# EAGLE library part OLOGO (library dec-con)
Experimental Logo for Boards.
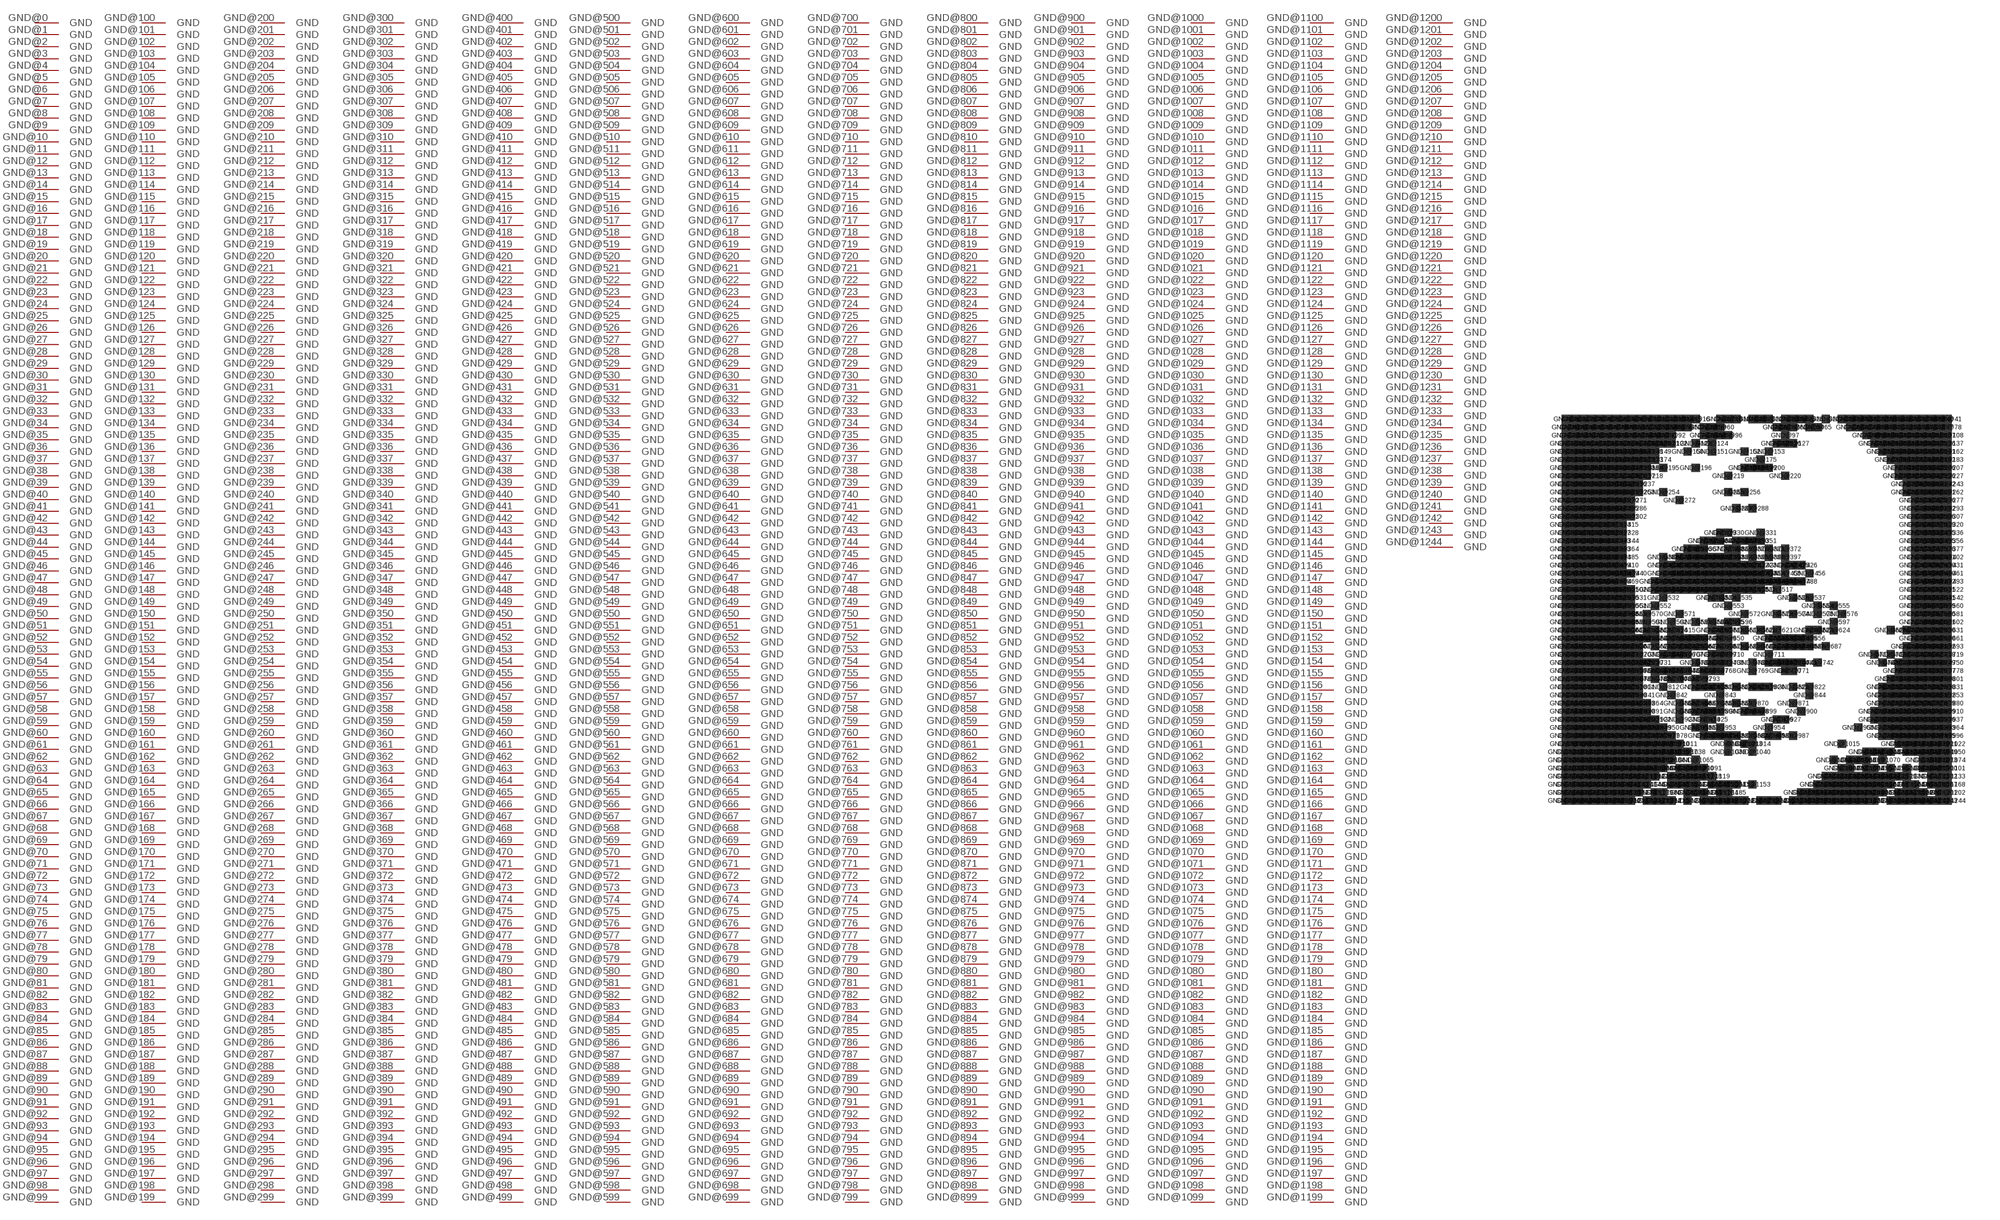
[diagram p36: symbol with the pads of OLOGO; footprint OLOGO]

Designator prefix -

## OLOGO  [OLOGO]
GND@0  GND  pwr
GND@1  GND  pwr
GND@2  GND  pwr
GND@3  GND  pwr
GND@4  GND  pwr
GND@5  GND  pwr
GND@6  GND  pwr
GND@7  GND  pwr
GND@8  GND  pwr
GND@9  GND  pwr
GND@10  GND  pwr
GND@11  GND  pwr
GND@12  GND  pwr
GND@13  GND  pwr
GND@14  GND  pwr
GND@15  GND  pwr
GND@16  GND  pwr
GND@17  GND  pwr
GND@18  GND  pwr
GND@19  GND  pwr
GND@20  GND  pwr
GND@21  GND  pwr
GND@22  GND  pwr
GND@23  GND  pwr
GND@24  GND  pwr
GND@25  GND  pwr
GND@26  GND  pwr
GND@27  GND  pwr
GND@28  GND  pwr
GND@29  GND  pwr
GND@30  GND  pwr
GND@31  GND  pwr
GND@32  GND  pwr
GND@33  GND  pwr
GND@34  GND  pwr
GND@35  GND  pwr
GND@36  GND  pwr
GND@37  GND  pwr
GND@38  GND  pwr
GND@39  GND  pwr
GND@40  GND  pwr
GND@41  GND  pwr
GND@42  GND  pwr
GND@43  GND  pwr
GND@44  GND  pwr
GND@45  GND  pwr
GND@46  GND  pwr
GND@47  GND  pwr
GND@48  GND  pwr
GND@49  GND  pwr
GND@50  GND  pwr
GND@51  GND  pwr
GND@52  GND  pwr
GND@53  GND  pwr
GND@54  GND  pwr
GND@55  GND  pwr
GND@56  GND  pwr
GND@57  GND  pwr
GND@58  GND  pwr
GND@59  GND  pwr
GND@60  GND  pwr
GND@61  GND  pwr
GND@62  GND  pwr
GND@63  GND  pwr
GND@64  GND  pwr
GND@65  GND  pwr
GND@66  GND  pwr
GND@67  GND  pwr
GND@68  GND  pwr
GND@69  GND  pwr
GND@70  GND  pwr
GND@71  GND  pwr
GND@72  GND  pwr
GND@73  GND  pwr
GND@74  GND  pwr
GND@75  GND  pwr
GND@76  GND  pwr
GND@77  GND  pwr
GND@78  GND  pwr
GND@79  GND  pwr
GND@80  GND  pwr
GND@81  GND  pwr
GND@82  GND  pwr
GND@83  GND  pwr
GND@84  GND  pwr
GND@85  GND  pwr
GND@86  GND  pwr
GND@87  GND  pwr
GND@88  GND  pwr
GND@89  GND  pwr
GND@90  GND  pwr
GND@91  GND  pwr
GND@92  GND  pwr
GND@93  GND  pwr
GND@94  GND  pwr
GND@95  GND  pwr
GND@96  GND  pwr
GND@97  GND  pwr
GND@98  GND  pwr
GND@99  GND  pwr
GND@100  GND  pwr
GND@101  GND  pwr
GND@102  GND  pwr
GND@103  GND  pwr
GND@104  GND  pwr
GND@105  GND  pwr
GND@106  GND  pwr
GND@107  GND  pwr
GND@108  GND  pwr
GND@109  GND  pwr
GND@110  GND  pwr
GND@111  GND  pwr
GND@112  GND  pwr
GND@113  GND  pwr
GND@114  GND  pwr
GND@115  GND  pwr
GND@116  GND  pwr
GND@117  GND  pwr
GND@118  GND  pwr
GND@119  GND  pwr
GND@120  GND  pwr
GND@121  GND  pwr
GND@122  GND  pwr
GND@123  GND  pwr
GND@124  GND  pwr
GND@125  GND  pwr
GND@126  GND  pwr
GND@127  GND  pwr
GND@128  GND  pwr
GND@129  GND  pwr
GND@130  GND  pwr
GND@131  GND  pwr
GND@132  GND  pwr
GND@133  GND  pwr
GND@134  GND  pwr
GND@135  GND  pwr
GND@136  GND  pwr
GND@137  GND  pwr
GND@138  GND  pwr
GND@139  GND  pwr
GND@140  GND  pwr
GND@141  GND  pwr
GND@142  GND  pwr
GND@143  GND  pwr
GND@144  GND  pwr
GND@145  GND  pwr
GND@146  GND  pwr
GND@147  GND  pwr
GND@148  GND  pwr
GND@149  GND  pwr
GND@150  GND  pwr
GND@151  GND  pwr
GND@152  GND  pwr
GND@153  GND  pwr
GND@154  GND  pwr
GND@155  GND  pwr
GND@156  GND  pwr
GND@157  GND  pwr
GND@158  GND  pwr
GND@159  GND  pwr
GND@160  GND  pwr
GND@161  GND  pwr
GND@162  GND  pwr
GND@163  GND  pwr
GND@164  GND  pwr
GND@165  GND  pwr
GND@166  GND  pwr
GND@167  GND  pwr
GND@168  GND  pwr
GND@169  GND  pwr
GND@170  GND  pwr
GND@171  GND  pwr
GND@172  GND  pwr
GND@173  GND  pwr
GND@174  GND  pwr
GND@175  GND  pwr
GND@176  GND  pwr
GND@177  GND  pwr
GND@178  GND  pwr
GND@179  GND  pwr
GND@180  GND  pwr
GND@181  GND  pwr
GND@182  GND  pwr
GND@183  GND  pwr
GND@184  GND  pwr
GND@185  GND  pwr
GND@186  GND  pwr
GND@187  GND  pwr
GND@188  GND  pwr
GND@189  GND  pwr
GND@190  GND  pwr
GND@191  GND  pwr
GND@192  GND  pwr
GND@193  GND  pwr
GND@194  GND  pwr
GND@195  GND  pwr
GND@196  GND  pwr
GND@197  GND  pwr
GND@198  GND  pwr
GND@199  GND  pwr
GND@200  GND  pwr
GND@201  GND  pwr
GND@202  GND  pwr
GND@203  GND  pwr
GND@204  GND  pwr
GND@205  GND  pwr
GND@206  GND  pwr
GND@207  GND  pwr
GND@208  GND  pwr
GND@209  GND  pwr
GND@210  GND  pwr
GND@211  GND  pwr
GND@212  GND  pwr
GND@213  GND  pwr
GND@214  GND  pwr
GND@215  GND  pwr
GND@216  GND  pwr
GND@217  GND  pwr
GND@218  GND  pwr
GND@219  GND  pwr
GND@220  GND  pwr
GND@221  GND  pwr
GND@222  GND  pwr
GND@223  GND  pwr
GND@224  GND  pwr
GND@225  GND  pwr
GND@226  GND  pwr
GND@227  GND  pwr
GND@228  GND  pwr
GND@229  GND  pwr
GND@230  GND  pwr
GND@231  GND  pwr
GND@232  GND  pwr
GND@233  GND  pwr
GND@234  GND  pwr
GND@235  GND  pwr
GND@236  GND  pwr
GND@237  GND  pwr
GND@238  GND  pwr
GND@239  GND  pwr
GND@240  GND  pwr
GND@241  GND  pwr
GND@242  GND  pwr
GND@243  GND  pwr
GND@244  GND  pwr
GND@245  GND  pwr
GND@246  GND  pwr
GND@247  GND  pwr
GND@248  GND  pwr
GND@249  GND  pwr
GND@250  GND  pwr
GND@251  GND  pwr
GND@252  GND  pwr
GND@253  GND  pwr
GND@254  GND  pwr
GND@255  GND  pwr
GND@256  GND  pwr
GND@257  GND  pwr
GND@258  GND  pwr
GND@259  GND  pwr
GND@260  GND  pwr
GND@261  GND  pwr
GND@262  GND  pwr
GND@263  GND  pwr
GND@264  GND  pwr
GND@265  GND  pwr
GND@266  GND  pwr
GND@267  GND  pwr
GND@268  GND  pwr
GND@269  GND  pwr
GND@270  GND  pwr
GND@271  GND  pwr
GND@272  GND  pwr
GND@273  GND  pwr
GND@274  GND  pwr
GND@275  GND  pwr
GND@276  GND  pwr
GND@277  GND  pwr
GND@278  GND  pwr
GND@279  GND  pwr
GND@280  GND  pwr
GND@281  GND  pwr
GND@282  GND  pwr
GND@283  GND  pwr
GND@284  GND  pwr
GND@285  GND  pwr
GND@286  GND  pwr
GND@287  GND  pwr
GND@288  GND  pwr
GND@289  GND  pwr
GND@290  GND  pwr
GND@291  GND  pwr
GND@292  GND  pwr
GND@293  GND  pwr
GND@294  GND  pwr
GND@295  GND  pwr
GND@296  GND  pwr
GND@297  GND  pwr
GND@298  GND  pwr
GND@299  GND  pwr
GND@300  GND  pwr
GND@301  GND  pwr
GND@302  GND  pwr
GND@303  GND  pwr
GND@304  GND  pwr
GND@305  GND  pwr
GND@306  GND  pwr
GND@307  GND  pwr
GND@308  GND  pwr
GND@309  GND  pwr
GND@310  GND  pwr
GND@311  GND  pwr
GND@312  GND  pwr
GND@313  GND  pwr
GND@314  GND  pwr
GND@315  GND  pwr
GND@316  GND  pwr
GND@317  GND  pwr
GND@318  GND  pwr
GND@319  GND  pwr
GND@320  GND  pwr
GND@321  GND  pwr
GND@322  GND  pwr
GND@323  GND  pwr
GND@324  GND  pwr
GND@325  GND  pwr
GND@326  GND  pwr
GND@327  GND  pwr
GND@328  GND  pwr
GND@329  GND  pwr
GND@330  GND  pwr
GND@331  GND  pwr
GND@332  GND  pwr
GND@333  GND  pwr
GND@334  GND  pwr
GND@335  GND  pwr
GND@336  GND  pwr
GND@337  GND  pwr
GND@338  GND  pwr
GND@339  GND  pwr
GND@340  GND  pwr
GND@341  GND  pwr
GND@342  GND  pwr
GND@343  GND  pwr
GND@344  GND  pwr
GND@345  GND  pwr
GND@346  GND  pwr
GND@347  GND  pwr
GND@348  GND  pwr
GND@349  GND  pwr
GND@350  GND  pwr
GND@351  GND  pwr
GND@352  GND  pwr
GND@353  GND  pwr
GND@354  GND  pwr
GND@355  GND  pwr
GND@356  GND  pwr
GND@357  GND  pwr
GND@358  GND  pwr
GND@359  GND  pwr
GND@360  GND  pwr
GND@361  GND  pwr
GND@362  GND  pwr
GND@363  GND  pwr
GND@364  GND  pwr
GND@365  GND  pwr
GND@366  GND  pwr
GND@367  GND  pwr
GND@368  GND  pwr
GND@369  GND  pwr
GND@370  GND  pwr
GND@371  GND  pwr
GND@372  GND  pwr
GND@373  GND  pwr
GND@374  GND  pwr
GND@375  GND  pwr
GND@376  GND  pwr
GND@377  GND  pwr
GND@378  GND  pwr
GND@379  GND  pwr
GND@380  GND  pwr
GND@381  GND  pwr
GND@382  GND  pwr
GND@383  GND  pwr
GND@384  GND  pwr
GND@385  GND  pwr
GND@386  GND  pwr
GND@387  GND  pwr
GND@388  GND  pwr
GND@389  GND  pwr
GND@390  GND  pwr
GND@391  GND  pwr
GND@392  GND  pwr
GND@393  GND  pwr
GND@394  GND  pwr
GND@395  GND  pwr
GND@396  GND  pwr
GND@397  GND  pwr
GND@398  GND  pwr
GND@399  GND  pwr
GND@400  GND  pwr
GND@401  GND  pwr
GND@402  GND  pwr
GND@403  GND  pwr
GND@404  GND  pwr
GND@405  GND  pwr
GND@406  GND  pwr
GND@407  GND  pwr
GND@408  GND  pwr
GND@409  GND  pwr
GND@410  GND  pwr
GND@411  GND  pwr
GND@412  GND  pwr
GND@413  GND  pwr
GND@414  GND  pwr
GND@415  GND  pwr
GND@416  GND  pwr
GND@417  GND  pwr
GND@418  GND  pwr
GND@419  GND  pwr
GND@420  GND  pwr
GND@421  GND  pwr
GND@422  GND  pwr
GND@423  GND  pwr
GND@424  GND  pwr
GND@425  GND  pwr
GND@426  GND  pwr
GND@427  GND  pwr
GND@428  GND  pwr
GND@429  GND  pwr
GND@430  GND  pwr
GND@431  GND  pwr
GND@432  GND  pwr
GND@433  GND  pwr
GND@434  GND  pwr
GND@435  GND  pwr
GND@436  GND  pwr
GND@437  GND  pwr
GND@438  GND  pwr
GND@439  GND  pwr
GND@440  GND  pwr
GND@441  GND  pwr
GND@442  GND  pwr
GND@443  GND  pwr
GND@444  GND  pwr
GND@445  GND  pwr
GND@446  GND  pwr
GND@447  GND  pwr
GND@448  GND  pwr
GND@449  GND  pwr
GND@450  GND  pwr
GND@451  GND  pwr
GND@452  GND  pwr
GND@453  GND  pwr
GND@454  GND  pwr
GND@455  GND  pwr
GND@456  GND  pwr
GND@457  GND  pwr
GND@458  GND  pwr
GND@459  GND  pwr
GND@460  GND  pwr
GND@461  GND  pwr
GND@462  GND  pwr
GND@463  GND  pwr
GND@464  GND  pwr
GND@465  GND  pwr
GND@466  GND  pwr
GND@467  GND  pwr
GND@468  GND  pwr
GND@469  GND  pwr
GND@470  GND  pwr
GND@471  GND  pwr
GND@472  GND  pwr
GND@473  GND  pwr
GND@474  GND  pwr
GND@475  GND  pwr
GND@476  GND  pwr
GND@477  GND  pwr
GND@478  GND  pwr
GND@479  GND  pwr
GND@480  GND  pwr
GND@481  GND  pwr
GND@482  GND  pwr
GND@483  GND  pwr
GND@484  GND  pwr
GND@485  GND  pwr
GND@486  GND  pwr
GND@487  GND  pwr
GND@488  GND  pwr
GND@489  GND  pwr
GND@490  GND  pwr
GND@491  GND  pwr
GND@492  GND  pwr
GND@493  GND  pwr
GND@494  GND  pwr
GND@495  GND  pwr
GND@496  GND  pwr
GND@497  GND  pwr
GND@498  GND  pwr
GND@499  GND  pwr
GND@500  GND  pwr
GND@501  GND  pwr
GND@502  GND  pwr
GND@503  GND  pwr
GND@504  GND  pwr
GND@505  GND  pwr
GND@506  GND  pwr
GND@507  GND  pwr
GND@508  GND  pwr
GND@509  GND  pwr
GND@510  GND  pwr
GND@511  GND  pwr
GND@512  GND  pwr
GND@513  GND  pwr
GND@514  GND  pwr
GND@515  GND  pwr
GND@516  GND  pwr
GND@517  GND  pwr
GND@518  GND  pwr
GND@519  GND  pwr
GND@520  GND  pwr
GND@521  GND  pwr
GND@522  GND  pwr
GND@523  GND  pwr
GND@524  GND  pwr
GND@525  GND  pwr
GND@526  GND  pwr
GND@527  GND  pwr
GND@528  GND  pwr
GND@529  GND  pwr
GND@530  GND  pwr
GND@531  GND  pwr
GND@532  GND  pwr
GND@533  GND  pwr
GND@534  GND  pwr
GND@535  GND  pwr
GND@536  GND  pwr
GND@537  GND  pwr
GND@538  GND  pwr
GND@539  GND  pwr
GND@540  GND  pwr
GND@541  GND  pwr
GND@542  GND  pwr
GND@543  GND  pwr
GND@544  GND  pwr
GND@545  GND  pwr
GND@546  GND  pwr
GND@547  GND  pwr
GND@548  GND  pwr
GND@549  GND  pwr
GND@550  GND  pwr
GND@551  GND  pwr
GND@552  GND  pwr
GND@553  GND  pwr
GND@554  GND  pwr
GND@555  GND  pwr
GND@556  GND  pwr
GND@557  GND  pwr
GND@558  GND  pwr
GND@559  GND  pwr
GND@560  GND  pwr
GND@561  GND  pwr
GND@562  GND  pwr
GND@563  GND  pwr
GND@564  GND  pwr
GND@565  GND  pwr
GND@566  GND  pwr
GND@567  GND  pwr
GND@568  GND  pwr
GND@569  GND  pwr
GND@570  GND  pwr
GND@571  GND  pwr
GND@572  GND  pwr
GND@573  GND  pwr
GND@574  GND  pwr
GND@575  GND  pwr
GND@576  GND  pwr
GND@577  GND  pwr
GND@578  GND  pwr
GND@579  GND  pwr
GND@580  GND  pwr
GND@581  GND  pwr
GND@582  GND  pwr
GND@583  GND  pwr
GND@584  GND  pwr
GND@585  GND  pwr
GND@586  GND  pwr
GND@587  GND  pwr
GND@588  GND  pwr
GND@589  GND  pwr
GND@590  GND  pwr
GND@591  GND  pwr
GND@592  GND  pwr
GND@593  GND  pwr
GND@594  GND  pwr
GND@595  GND  pwr
GND@596  GND  pwr
GND@597  GND  pwr
GND@598  GND  pwr
GND@599  GND  pwr
GND@600  GND  pwr
GND@601  GND  pwr
GND@602  GND  pwr
GND@603  GND  pwr
GND@604  GND  pwr
GND@605  GND  pwr
GND@606  GND  pwr
GND@607  GND  pwr
GND@608  GND  pwr
GND@609  GND  pwr
GND@610  GND  pwr
GND@611  GND  pwr
GND@612  GND  pwr
GND@613  GND  pwr
GND@614  GND  pwr
GND@615  GND  pwr
GND@616  GND  pwr
GND@617  GND  pwr
GND@618  GND  pwr
GND@619  GND  pwr
GND@620  GND  pwr
GND@621  GND  pwr
GND@622  GND  pwr
GND@623  GND  pwr
GND@624  GND  pwr
GND@625  GND  pwr
GND@626  GND  pwr
GND@627  GND  pwr
GND@628  GND  pwr
GND@629  GND  pwr
GND@630  GND  pwr
GND@631  GND  pwr
GND@632  GND  pwr
GND@633  GND  pwr
GND@634  GND  pwr
GND@635  GND  pwr
GND@636  GND  pwr
GND@637  GND  pwr
GND@638  GND  pwr
GND@639  GND  pwr
GND@640  GND  pwr
GND@641  GND  pwr
GND@642  GND  pwr
GND@643  GND  pwr
GND@644  GND  pwr
GND@645  GND  pwr
GND@646  GND  pwr
GND@647  GND  pwr
GND@648  GND  pwr
GND@649  GND  pwr
GND@650  GND  pwr
GND@651  GND  pwr
GND@652  GND  pwr
GND@653  GND  pwr
GND@654  GND  pwr
GND@655  GND  pwr
GND@656  GND  pwr
GND@657  GND  pwr
GND@658  GND  pwr
GND@659  GND  pwr
GND@660  GND  pwr
GND@661  GND  pwr
GND@662  GND  pwr
GND@663  GND  pwr
GND@664  GND  pwr
GND@665  GND  pwr
GND@666  GND  pwr
GND@667  GND  pwr
GND@668  GND  pwr
GND@669  GND  pwr
GND@670  GND  pwr
GND@671  GND  pwr
GND@672  GND  pwr
GND@673  GND  pwr
GND@674  GND  pwr
GND@675  GND  pwr
GND@676  GND  pwr
GND@677  GND  pwr
GND@678  GND  pwr
GND@679  GND  pwr
GND@680  GND  pwr
GND@681  GND  pwr
GND@682  GND  pwr
GND@683  GND  pwr
GND@684  GND  pwr
GND@685  GND  pwr
GND@686  GND  pwr
GND@687  GND  pwr
GND@688  GND  pwr
GND@689  GND  pwr
GND@690  GND  pwr
GND@691  GND  pwr
GND@692  GND  pwr
GND@693  GND  pwr
GND@694  GND  pwr
GND@695  GND  pwr
GND@696  GND  pwr
GND@697  GND  pwr
GND@698  GND  pwr
GND@699  GND  pwr
GND@700  GND  pwr
GND@701  GND  pwr
GND@702  GND  pwr
GND@703  GND  pwr
GND@704  GND  pwr
GND@705  GND  pwr
GND@706  GND  pwr
GND@707  GND  pwr
GND@708  GND  pwr
GND@709  GND  pwr
GND@710  GND  pwr
GND@711  GND  pwr
GND@712  GND  pwr
GND@713  GND  pwr
GND@714  GND  pwr
GND@715  GND  pwr
GND@716  GND  pwr
GND@717  GND  pwr
GND@718  GND  pwr
GND@719  GND  pwr
GND@720  GND  pwr
GND@721  GND  pwr
GND@722  GND  pwr
GND@723  GND  pwr
GND@724  GND  pwr
GND@725  GND  pwr
GND@726  GND  pwr
GND@727  GND  pwr
GND@728  GND  pwr
GND@729  GND  pwr
GND@730  GND  pwr
GND@731  GND  pwr
GND@732  GND  pwr
GND@733  GND  pwr
GND@734  GND  pwr
GND@735  GND  pwr
GND@736  GND  pwr
GND@737  GND  pwr
GND@738  GND  pwr
GND@739  GND  pwr
GND@740  GND  pwr
GND@741  GND  pwr
GND@742  GND  pwr
GND@743  GND  pwr
GND@744  GND  pwr
GND@745  GND  pwr
GND@746  GND  pwr
GND@747  GND  pwr
GND@748  GND  pwr
GND@749  GND  pwr
GND@750  GND  pwr
GND@751  GND  pwr
GND@752  GND  pwr
GND@753  GND  pwr
GND@754  GND  pwr
GND@755  GND  pwr
GND@756  GND  pwr
GND@757  GND  pwr
GND@758  GND  pwr
GND@759  GND  pwr
GND@760  GND  pwr
GND@761  GND  pwr
GND@762  GND  pwr
GND@763  GND  pwr
GND@764  GND  pwr
GND@765  GND  pwr
GND@766  GND  pwr
GND@767  GND  pwr
GND@768  GND  pwr
GND@769  GND  pwr
GND@770  GND  pwr
GND@771  GND  pwr
GND@772  GND  pwr
GND@773  GND  pwr
GND@774  GND  pwr
GND@775  GND  pwr
GND@776  GND  pwr
GND@777  GND  pwr
GND@778  GND  pwr
GND@779  GND  pwr
GND@780  GND  pwr
GND@781  GND  pwr
GND@782  GND  pwr
GND@783  GND  pwr
GND@784  GND  pwr
GND@785  GND  pwr
GND@786  GND  pwr
GND@787  GND  pwr
GND@788  GND  pwr
GND@789  GND  pwr
GND@790  GND  pwr
GND@791  GND  pwr
GND@792  GND  pwr
GND@793  GND  pwr
GND@794  GND  pwr
GND@795  GND  pwr
GND@796  GND  pwr
GND@797  GND  pwr
GND@798  GND  pwr
GND@799  GND  pwr
GND@800  GND  pwr
GND@801  GND  pwr
GND@802  GND  pwr
GND@803  GND  pwr
GND@804  GND  pwr
GND@805  GND  pwr
GND@806  GND  pwr
GND@807  GND  pwr
GND@808  GND  pwr
GND@809  GND  pwr
GND@810  GND  pwr
GND@811  GND  pwr
GND@812  GND  pwr
GND@813  GND  pwr
GND@814  GND  pwr
GND@815  GND  pwr
GND@816  GND  pwr
GND@817  GND  pwr
GND@818  GND  pwr
GND@819  GND  pwr
GND@820  GND  pwr
GND@821  GND  pwr
GND@822  GND  pwr
GND@823  GND  pwr
GND@824  GND  pwr
GND@825  GND  pwr
GND@826  GND  pwr
GND@827  GND  pwr
GND@828  GND  pwr
GND@829  GND  pwr
GND@830  GND  pwr
GND@831  GND  pwr
GND@832  GND  pwr
GND@833  GND  pwr
GND@834  GND  pwr
GND@835  GND  pwr
GND@836  GND  pwr
GND@837  GND  pwr
GND@838  GND  pwr
GND@839  GND  pwr
GND@840  GND  pwr
GND@841  GND  pwr
GND@842  GND  pwr
GND@843  GND  pwr
GND@844  GND  pwr
GND@845  GND  pwr
GND@846  GND  pwr
GND@847  GND  pwr
GND@848  GND  pwr
GND@849  GND  pwr
GND@850  GND  pwr
GND@851  GND  pwr
GND@852  GND  pwr
GND@853  GND  pwr
GND@854  GND  pwr
GND@855  GND  pwr
GND@856  GND  pwr
GND@857  GND  pwr
GND@858  GND  pwr
GND@859  GND  pwr
GND@860  GND  pwr
GND@861  GND  pwr
GND@862  GND  pwr
GND@863  GND  pwr
GND@864  GND  pwr
GND@865  GND  pwr
GND@866  GND  pwr
GND@867  GND  pwr
GND@868  GND  pwr
GND@869  GND  pwr
GND@870  GND  pwr
GND@871  GND  pwr
GND@872  GND  pwr
GND@873  GND  pwr
GND@874  GND  pwr
GND@875  GND  pwr
GND@876  GND  pwr
GND@877  GND  pwr
GND@878  GND  pwr
GND@879  GND  pwr
GND@880  GND  pwr
GND@881  GND  pwr
GND@882  GND  pwr
GND@883  GND  pwr
GND@884  GND  pwr
GND@885  GND  pwr
GND@886  GND  pwr
GND@887  GND  pwr
GND@888  GND  pwr
GND@889  GND  pwr
GND@890  GND  pwr
GND@891  GND  pwr
GND@892  GND  pwr
GND@893  GND  pwr
GND@894  GND  pwr
GND@895  GND  pwr
GND@896  GND  pwr
GND@897  GND  pwr
GND@898  GND  pwr
GND@899  GND  pwr
GND@900  GND  pwr
GND@901  GND  pwr
GND@902  GND  pwr
GND@903  GND  pwr
GND@904  GND  pwr
GND@905  GND  pwr
GND@906  GND  pwr
GND@907  GND  pwr
GND@908  GND  pwr
GND@909  GND  pwr
GND@910  GND  pwr
GND@911  GND  pwr
GND@912  GND  pwr
GND@913  GND  pwr
GND@914  GND  pwr
GND@915  GND  pwr
GND@916  GND  pwr
GND@917  GND  pwr
GND@918  GND  pwr
GND@919  GND  pwr
GND@920  GND  pwr
GND@921  GND  pwr
GND@922  GND  pwr
GND@923  GND  pwr
GND@924  GND  pwr
GND@925  GND  pwr
GND@926  GND  pwr
GND@927  GND  pwr
GND@928  GND  pwr
GND@929  GND  pwr
GND@930  GND  pwr
GND@931  GND  pwr
GND@932  GND  pwr
GND@933  GND  pwr
GND@934  GND  pwr
GND@935  GND  pwr
GND@936  GND  pwr
GND@937  GND  pwr
GND@938  GND  pwr
GND@939  GND  pwr
GND@940  GND  pwr
GND@941  GND  pwr
GND@942  GND  pwr
GND@943  GND  pwr
GND@944  GND  pwr
GND@945  GND  pwr
GND@946  GND  pwr
GND@947  GND  pwr
GND@948  GND  pwr
GND@949  GND  pwr
GND@950  GND  pwr
GND@951  GND  pwr
GND@952  GND  pwr
GND@953  GND  pwr
GND@954  GND  pwr
GND@955  GND  pwr
GND@956  GND  pwr
GND@957  GND  pwr
GND@958  GND  pwr
GND@959  GND  pwr
GND@960  GND  pwr
GND@961  GND  pwr
GND@962  GND  pwr
GND@963  GND  pwr
GND@964  GND  pwr
GND@965  GND  pwr
GND@966  GND  pwr
GND@967  GND  pwr
GND@968  GND  pwr
GND@969  GND  pwr
GND@970  GND  pwr
GND@971  GND  pwr
GND@972  GND  pwr
GND@973  GND  pwr
GND@974  GND  pwr
GND@975  GND  pwr
GND@976  GND  pwr
GND@977  GND  pwr
GND@978  GND  pwr
GND@979  GND  pwr
GND@980  GND  pwr
GND@981  GND  pwr
GND@982  GND  pwr
GND@983  GND  pwr
GND@984  GND  pwr
GND@985  GND  pwr
GND@986  GND  pwr
GND@987  GND  pwr
GND@988  GND  pwr
GND@989  GND  pwr
GND@990  GND  pwr
GND@991  GND  pwr
GND@992  GND  pwr
GND@993  GND  pwr
GND@994  GND  pwr
GND@995  GND  pwr
GND@996  GND  pwr
GND@997  GND  pwr
GND@998  GND  pwr
GND@999  GND  pwr
GND@1000  GND  pwr
GND@1001  GND  pwr
GND@1002  GND  pwr
GND@1003  GND  pwr
GND@1004  GND  pwr
GND@1005  GND  pwr
GND@1006  GND  pwr
GND@1007  GND  pwr
GND@1008  GND  pwr
GND@1009  GND  pwr
GND@1010  GND  pwr
GND@1011  GND  pwr
GND@1012  GND  pwr
GND@1013  GND  pwr
GND@1014  GND  pwr
GND@1015  GND  pwr
GND@1016  GND  pwr
GND@1017  GND  pwr
GND@1018  GND  pwr
GND@1019  GND  pwr
GND@1020  GND  pwr
GND@1021  GND  pwr
GND@1022  GND  pwr
GND@1023  GND  pwr
GND@1024  GND  pwr
GND@1025  GND  pwr
GND@1026  GND  pwr
GND@1027  GND  pwr
GND@1028  GND  pwr
GND@1029  GND  pwr
GND@1030  GND  pwr
GND@1031  GND  pwr
GND@1032  GND  pwr
GND@1033  GND  pwr
GND@1034  GND  pwr
GND@1035  GND  pwr
GND@1036  GND  pwr
GND@1037  GND  pwr
GND@1038  GND  pwr
GND@1039  GND  pwr
GND@1040  GND  pwr
GND@1041  GND  pwr
GND@1042  GND  pwr
GND@1043  GND  pwr
GND@1044  GND  pwr
GND@1045  GND  pwr
GND@1046  GND  pwr
GND@1047  GND  pwr
GND@1048  GND  pwr
GND@1049  GND  pwr
GND@1050  GND  pwr
GND@1051  GND  pwr
GND@1052  GND  pwr
GND@1053  GND  pwr
GND@1054  GND  pwr
GND@1055  GND  pwr
GND@1056  GND  pwr
GND@1057  GND  pwr
GND@1058  GND  pwr
GND@1059  GND  pwr
GND@1060  GND  pwr
GND@1061  GND  pwr
GND@1062  GND  pwr
GND@1063  GND  pwr
GND@1064  GND  pwr
GND@1065  GND  pwr
GND@1066  GND  pwr
GND@1067  GND  pwr
GND@1068  GND  pwr
GND@1069  GND  pwr
GND@1070  GND  pwr
GND@1071  GND  pwr
GND@1072  GND  pwr
GND@1073  GND  pwr
GND@1074  GND  pwr
GND@1075  GND  pwr
GND@1076  GND  pwr
GND@1077  GND  pwr
GND@1078  GND  pwr
GND@1079  GND  pwr
GND@1080  GND  pwr
GND@1081  GND  pwr
GND@1082  GND  pwr
GND@1083  GND  pwr
GND@1084  GND  pwr
GND@1085  GND  pwr
GND@1086  GND  pwr
GND@1087  GND  pwr
GND@1088  GND  pwr
GND@1089  GND  pwr
GND@1090  GND  pwr
GND@1091  GND  pwr
GND@1092  GND  pwr
GND@1093  GND  pwr
GND@1094  GND  pwr
GND@1095  GND  pwr
GND@1096  GND  pwr
GND@1097  GND  pwr
GND@1098  GND  pwr
GND@1099  GND  pwr
GND@1100  GND  pwr
GND@1101  GND  pwr
GND@1102  GND  pwr
GND@1103  GND  pwr
GND@1104  GND  pwr
GND@1105  GND  pwr
GND@1106  GND  pwr
GND@1107  GND  pwr
GND@1108  GND  pwr
GND@1109  GND  pwr
GND@1110  GND  pwr
GND@1111  GND  pwr
GND@1112  GND  pwr
GND@1113  GND  pwr
GND@1114  GND  pwr
GND@1115  GND  pwr
GND@1116  GND  pwr
GND@1117  GND  pwr
GND@1118  GND  pwr
GND@1119  GND  pwr
GND@1120  GND  pwr
GND@1121  GND  pwr
GND@1122  GND  pwr
GND@1123  GND  pwr
GND@1124  GND  pwr
GND@1125  GND  pwr
GND@1126  GND  pwr
GND@1127  GND  pwr
GND@1128  GND  pwr
GND@1129  GND  pwr
GND@1130  GND  pwr
GND@1131  GND  pwr
GND@1132  GND  pwr
GND@1133  GND  pwr
GND@1134  GND  pwr
GND@1135  GND  pwr
GND@1136  GND  pwr
GND@1137  GND  pwr
GND@1138  GND  pwr
GND@1139  GND  pwr
GND@1140  GND  pwr
GND@1141  GND  pwr
GND@1142  GND  pwr
GND@1143  GND  pwr
GND@1144  GND  pwr
GND@1145  GND  pwr
GND@1146  GND  pwr
GND@1147  GND  pwr
GND@1148  GND  pwr
GND@1149  GND  pwr
GND@1150  GND  pwr
GND@1151  GND  pwr
GND@1152  GND  pwr
GND@1153  GND  pwr
GND@1154  GND  pwr
GND@1155  GND  pwr
GND@1156  GND  pwr
GND@1157  GND  pwr
GND@1158  GND  pwr
GND@1159  GND  pwr
GND@1160  GND  pwr
GND@1161  GND  pwr
GND@1162  GND  pwr
GND@1163  GND  pwr
GND@1164  GND  pwr
GND@1165  GND  pwr
GND@1166  GND  pwr
GND@1167  GND  pwr
GND@1168  GND  pwr
GND@1169  GND  pwr
GND@1170  GND  pwr
GND@1171  GND  pwr
GND@1172  GND  pwr
GND@1173  GND  pwr
GND@1174  GND  pwr
GND@1175  GND  pwr
GND@1176  GND  pwr
GND@1177  GND  pwr
GND@1178  GND  pwr
GND@1179  GND  pwr
GND@1180  GND  pwr
GND@1181  GND  pwr
GND@1182  GND  pwr
GND@1183  GND  pwr
GND@1184  GND  pwr
GND@1185  GND  pwr
GND@1186  GND  pwr
GND@1187  GND  pwr
GND@1188  GND  pwr
GND@1189  GND  pwr
GND@1190  GND  pwr
GND@1191  GND  pwr
GND@1192  GND  pwr
GND@1193  GND  pwr
GND@1194  GND  pwr
GND@1195  GND  pwr
GND@1196  GND  pwr
GND@1197  GND  pwr
GND@1198  GND  pwr
GND@1199  GND  pwr
GND@1200  GND  pwr
GND@1201  GND  pwr
GND@1202  GND  pwr
GND@1203  GND  pwr
GND@1204  GND  pwr
GND@1205  GND  pwr
GND@1206  GND  pwr
GND@1207  GND  pwr
GND@1208  GND  pwr
GND@1209  GND  pwr
GND@1210  GND  pwr
GND@1211  GND  pwr
GND@1212  GND  pwr
GND@1213  GND  pwr
GND@1214  GND  pwr
GND@1215  GND  pwr
GND@1216  GND  pwr
GND@1217  GND  pwr
GND@1218  GND  pwr
GND@1219  GND  pwr
GND@1220  GND  pwr
GND@1221  GND  pwr
GND@1222  GND  pwr
GND@1223  GND  pwr
GND@1224  GND  pwr
GND@1225  GND  pwr
GND@1226  GND  pwr
GND@1227  GND  pwr
GND@1228  GND  pwr
GND@1229  GND  pwr
GND@1230  GND  pwr
GND@1231  GND  pwr
GND@1232  GND  pwr
GND@1233  GND  pwr
GND@1234  GND  pwr
GND@1235  GND  pwr
GND@1236  GND  pwr
GND@1237  GND  pwr
GND@1238  GND  pwr
GND@1239  GND  pwr
GND@1240  GND  pwr
GND@1241  GND  pwr
GND@1242  GND  pwr
GND@1243  GND  pwr
GND@1244  GND  pwr

## Footprint OLOGO (pad centres in mm)
Experimental Logo for boards.
smd 0.254 x 0.254 bottom: GND@0 0,11.938; GND@1 0.254,11.938; GND@2 0.508,11.938; GND@3 0.762,11.938; GND@4 1.016,11.938; GND@5 1.27,11.938; GND@6 1.524,11.938; GND@7 1.778,11.938; GND@8 2.032,11.938; GND@9 2.286,11.938; GND@10 2.54,11.938; GND@11 2.794,11.938; GND@12 3.048,11.938; GND@13 3.302,11.938; GND@14 3.556,11.938; GND@15 3.81,11.938; GND@16 4.064,11.938; GND@17 4.826,11.938; GND@18 5.08,11.938; GND@19 5.334,11.938; GND@20 5.842,11.938; GND@21 6.096,11.938; GND@22 6.35,11.938; GND@23 6.858,11.938; GND@24 7.112,11.938; GND@25 7.366,11.938; GND@26 7.62,11.938; GND@27 8.128,11.938; GND@28 8.636,11.938; GND@29 8.89,11.938; GND@30 9.144,11.938; GND@31 9.398,11.938; GND@32 9.652,11.938; GND@33 9.906,11.938; GND@34 10.16,11.938; GND@35 10.414,11.938; GND@36 10.668,11.938; GND@37 10.922,11.938; GND@38 11.176,11.938; GND@39 11.43,11.938; GND@40 11.684,11.938; GND@41 11.938,11.938; GND@42 0,11.684; GND@43 0.254,11.684; GND@44 0.508,11.684; GND@45 0.762,11.684; GND@46 1.016,11.684; GND@47 1.27,11.684; GND@48 1.524,11.684; GND@49 1.778,11.684; GND@50 2.032,11.684; GND@51 2.286,11.684; GND@52 2.54,11.684; GND@53 2.794,11.684; GND@54 3.048,11.684; GND@55 3.302,11.684; GND@56 3.556,11.684; GND@57 3.81,11.684; GND@58 4.318,11.684; GND@59 4.572,11.684; GND@60 4.826,11.684; GND@61 6.604,11.684; GND@62 6.858,11.684; GND@63 7.112,11.684; GND@64 7.62,11.684; GND@65 7.874,11.684; GND@66 8.89,11.684; GND@67 9.144,11.684; GND@68 9.398,11.684; GND@69 9.652,11.684; GND@70 9.906,11.684; GND@71 10.16,11.684; GND@72 10.414,11.684; GND@73 10.668,11.684; GND@74 10.922,11.684; GND@75 11.176,11.684; GND@76 11.43,11.684; GND@77 11.684,11.684; GND@78 11.938,11.684; GND@79 0,11.43; GND@80 0.254,11.43; GND@81 0.508,11.43; GND@82 0.762,11.43; GND@83 1.016,11.43; GND@84 1.27,11.43; GND@85 1.524,11.43; GND@86 1.778,11.43; GND@87 2.032,11.43; GND@88 2.286,11.43; GND@89 2.54,11.43; GND@90 2.794,11.43; GND@91 3.048,11.43; GND@92 3.302,11.43; GND@93 4.318,11.43; GND@94 4.572,11.43; GND@95 4.826,11.43; GND@96 5.08,11.43; GND@97 6.858,11.43; GND@98 9.398,11.43; GND@99 9.652,11.43; GND@100 9.906,11.43; GND@101 10.16,11.43; GND@102 10.414,11.43; GND@103 10.668,11.43; GND@104 10.922,11.43; GND@105 11.176,11.43; GND@106 11.43,11.43; GND@107 11.684,11.43; GND@108 11.938,11.43; GND@109 0,11.176; GND@110 0.254,11.176; GND@111 0.508,11.176; GND@112 0.762,11.176; GND@113 1.016,11.176; GND@114 1.27,11.176; GND@115 1.524,11.176; GND@116 1.778,11.176; GND@117 2.032,11.176; GND@118 2.286,11.176; GND@119 2.54,11.176; GND@120 2.794,11.176; GND@121 3.048,11.176; GND@122 3.302,11.176; GND@123 4.064,11.176; GND@124 4.572,11.176; GND@125 6.604,11.176; GND@126 6.858,11.176; GND@127 7.112,11.176; GND@128 9.652,11.176; GND@129 9.906,11.176; GND@130 10.16,11.176; GND@131 10.414,11.176; GND@132 10.668,11.176; GND@133 10.922,11.176; GND@134 11.176,11.176; GND@135 11.43,11.176; GND@136 11.684,11.176; GND@137 11.938,11.176; GND@138 0,10.922; GND@139 0.254,10.922; GND@140 0.508,10.922; GND@141 0.762,10.922; GND@142 1.016,10.922; GND@143 1.27,10.922; GND@144 1.524,10.922; GND@145 1.778,10.922; GND@146 2.032,10.922; GND@147 2.286,10.922; GND@148 2.54,10.922; GND@149 2.794,10.922; GND@150 3.81,10.922; GND@151 4.572,10.922; GND@152 5.588,10.922; GND@153 6.35,10.922; GND@154 9.906,10.922; GND@155 10.16,10.922; GND@156 10.414,10.922; GND@157 10.668,10.922; GND@158 10.922,10.922; GND@159 11.176,10.922; GND@160 11.43,10.922; GND@161 11.684,10.922; GND@162 11.938,10.922; GND@163 0,10.668; GND@164 0.254,10.668; GND@165 0.508,10.668; GND@166 0.762,10.668; GND@167 1.016,10.668; GND@168 1.27,10.668; GND@169 1.524,10.668; GND@170 1.778,10.668; GND@171 2.032,10.668; GND@172 2.286,10.668; GND@173 2.54,10.668; GND@174 2.794,10.668; GND@175 6.096,10.668; GND@176 10.16,10.668; GND@177 10.414,10.668; GND@178 10.668,10.668; GND@179 10.922,10.668; GND@180 11.176,10.668; GND@181 11.43,10.668; GND@182 11.684,10.668; GND@183 11.938,10.668; GND@184 0,10.414; GND@185 0.254,10.414; GND@186 0.508,10.414; GND@187 0.762,10.414; GND@188 1.016,10.414; GND@189 1.27,10.414; GND@190 1.524,10.414; GND@191 1.778,10.414; GND@192 2.032,10.414; GND@193 2.286,10.414; GND@194 2.54,10.414; GND@195 3.048,10.414; GND@196 4.064,10.414; GND@197 5.588,10.414; GND@198 5.842,10.414; GND@199 6.096,10.414; GND@200 6.35,10.414; GND@201 10.414,10.414; GND@202 10.668,10.414; GND@203 10.922,10.414; GND@204 11.176,10.414; GND@205 11.43,10.414; GND@206 11.684,10.414; GND@207 11.938,10.414; GND@208 0,10.16; GND@209 0.254,10.16; GND@210 0.508,10.16; GND@211 0.762,10.16; GND@212 1.016,10.16; GND@213 1.27,10.16; GND@214 1.524,10.16; GND@215 1.778,10.16; GND@216 2.032,10.16; GND@217 2.286,10.16; GND@218 2.54,10.16; GND@219 5.08,10.16; GND@220 6.858,10.16; GND@221 10.414,10.16; GND@222 10.668,10.16; GND@223 10.922,10.16; GND@224 11.176,10.16; GND@225 11.43,10.16; GND@226 11.684,10.16; GND@227 11.938,10.16; GND@228 0,9.906; GND@229 0.254,9.906; GND@230 0.508,9.906; GND@231 0.762,9.906; GND@232 1.016,9.906; GND@233 1.27,9.906; GND@234 1.524,9.906; GND@235 1.778,9.906; GND@236 2.032,9.906; GND@237 2.286,9.906; GND@238 10.668,9.906; GND@239 10.922,9.906; GND@240 11.176,9.906; GND@241 11.43,9.906; GND@242 11.684,9.906; GND@243 11.938,9.906; GND@244 0,9.652; GND@245 0.254,9.652; GND@246 0.508,9.652; GND@247 0.762,9.652; GND@248 1.016,9.652; GND@249 1.27,9.652; GND@250 1.524,9.652; GND@251 1.778,9.652; GND@252 2.032,9.652; GND@253 2.286,9.652; GND@254 3.048,9.652; GND@255 5.08,9.652; GND@256 5.588,9.652; GND@257 10.668,9.652; GND@258 10.922,9.652; GND@259 11.176,9.652; GND@260 11.43,9.652; GND@261 11.684,9.652; GND@262 11.938,9.652; GND@263 0,9.398; GND@264 0.254,9.398; GND@265 0.508,9.398; GND@266 0.762,9.398; GND@267 1.016,9.398; GND@268 1.27,9.398; GND@269 1.524,9.398; GND@270 1.778,9.398; GND@271 2.032,9.398; GND@272 3.556,9.398; GND@273 10.922,9.398; GND@274 11.176,9.398; GND@275 11.43,9.398; GND@276 11.684,9.398; GND@277 11.938,9.398; GND@278 0,9.144; GND@279 0.254,9.144; GND@280 0.508,9.144; GND@281 0.762,9.144; GND@282 1.016,9.144; GND@283 1.27,9.144; GND@284 1.524,9.144; GND@285 1.778,9.144; GND@286 2.032,9.144; GND@287 5.334,9.144; GND@288 5.842,9.144; GND@289 10.922,9.144; GND@290 11.176,9.144; GND@291 11.43,9.144; GND@292 11.684,9.144; GND@293 11.938,9.144; GND@294 0,8.89; GND@295 0.254,8.89; GND@296 0.508,8.89; GND@297 0.762,8.89; GND@298 1.016,8.89; GND@299 1.27,8.89; GND@300 1.524,8.89; GND@301 1.778,8.89; GND@302 2.032,8.89; GND@303 10.922,8.89; GND@304 11.176,8.89; GND@305 11.43,8.89; GND@306 11.684,8.89; GND@307 11.938,8.89; GND@308 0,8.636; GND@309 0.254,8.636; GND@310 0.508,8.636; GND@311 0.762,8.636; GND@312 1.016,8.636; GND@313 1.27,8.636; GND@314 1.524,8.636; GND@315 1.778,8.636; GND@316 10.922,8.636; GND@317 11.176,8.636; GND@318 11.43,8.636; GND@319 11.684,8.636; GND@320 11.938,8.636; GND@321 0,8.382; GND@322 0.254,8.382; GND@323 0.508,8.382; GND@324 0.762,8.382; GND@325 1.016,8.382; GND@326 1.27,8.382; GND@327 1.524,8.382; GND@328 1.778,8.382; GND@329 4.826,8.382; GND@330 5.08,8.382; GND@331 6.096,8.382; GND@332 10.922,8.382; GND@333 11.176,8.382; GND@334 11.43,8.382; GND@335 11.684,8.382; GND@336 11.938,8.382; GND@337 0,8.128; GND@338 0.254,8.128; GND@339 0.508,8.128; GND@340 0.762,8.128; GND@341 1.016,8.128; GND@342 1.27,8.128; GND@343 1.524,8.128; GND@344 1.778,8.128; GND@345 4.318,8.128; GND@346 4.572,8.128; GND@347 4.826,8.128; GND@348 5.334,8.128; GND@349 5.588,8.128; GND@350 5.842,8.128; GND@351 6.096,8.128; GND@352 10.922,8.128; GND@353 11.176,8.128; GND@354 11.43,8.128; GND@355 11.684,8.128; GND@356 11.938,8.128; GND@357 0,7.874; GND@358 0.254,7.874; GND@359 0.508,7.874; GND@360 0.762,7.874; GND@361 1.016,7.874; GND@362 1.27,7.874; GND@363 1.524,7.874; GND@364 1.778,7.874; GND@365 3.81,7.874; GND@366 4.064,7.874; GND@367 4.318,7.874; GND@368 5.08,7.874; GND@369 5.334,7.874; GND@370 5.842,7.874; GND@371 6.35,7.874; GND@372 6.858,7.874; GND@373 10.922,7.874; GND@374 11.176,7.874; GND@375 11.43,7.874; GND@376 11.684,7.874; GND@377 11.938,7.874; GND@378 0,7.62; GND@379 0.254,7.62; GND@380 0.508,7.62; GND@381 0.762,7.62; GND@382 1.016,7.62; GND@383 1.27,7.62; GND@384 1.524,7.62; GND@385 1.778,7.62; GND@386 3.048,7.62; GND@387 3.556,7.62; GND@388 3.81,7.62; GND@389 4.064,7.62; GND@390 4.318,7.62; GND@391 4.572,7.62; GND@392 4.826,7.62; GND@393 5.08,7.62; GND@394 5.334,7.62; GND@395 5.842,7.62; GND@396 6.35,7.62; GND@397 6.858,7.62; GND@398 10.922,7.62; GND@399 11.176,7.62; GND@400 11.43,7.62; GND@401 11.684,7.62; GND@402 11.938,7.62; GND@403 0,7.366; GND@404 0.254,7.366; GND@405 0.508,7.366; GND@406 0.762,7.366; GND@407 1.016,7.366; GND@408 1.27,7.366; GND@409 1.524,7.366; GND@410 1.778,7.366; GND@411 3.048,7.366; GND@412 3.302,7.366; GND@413 3.556,7.366; GND@414 3.81,7.366; GND@415 4.064,7.366; GND@416 4.318,7.366; GND@417 4.572,7.366; GND@418 4.826,7.366; GND@419 5.08,7.366; GND@420 5.334,7.366; GND@421 5.588,7.366; GND@422 5.842,7.366; GND@423 6.096,7.366; GND@424 6.858,7.366; GND@425 7.112,7.366; GND@426 7.366,7.366; GND@427 10.922,7.366; GND@428 11.176,7.366; GND@429 11.43,7.366; GND@430 11.684,7.366; GND@431 11.938,7.366; GND@432 0,7.112; GND@433 0.254,7.112; GND@434 0.508,7.112; GND@435 0.762,7.112; GND@436 1.016,7.112; GND@437 1.27,7.112; GND@438 1.524,7.112; GND@439 1.778,7.112; GND@440 2.032,7.112; GND@441 3.048,7.112; GND@442 3.302,7.112; GND@443 3.556,7.112; GND@444 3.81,7.112; GND@445 4.064,7.112; GND@446 4.318,7.112; GND@447 4.572,7.112; GND@448 4.826,7.112; GND@449 5.08,7.112; GND@450 5.334,7.112; GND@451 5.588,7.112; GND@452 5.842,7.112; GND@453 6.096,7.112; GND@454 6.35,7.112; GND@455 6.858,7.112; GND@456 7.62,7.112; GND@457 10.922,7.112; GND@458 11.176,7.112; GND@459 11.43,7.112; GND@460 11.684,7.112; GND@461 11.938,7.112; GND@462 0,6.858; GND@463 0.254,6.858; GND@464 0.508,6.858; GND@465 0.762,6.858; GND@466 1.016,6.858; GND@467 1.27,6.858; GND@468 1.524,6.858; GND@469 1.778,6.858; GND@470 2.794,6.858; GND@471 3.048,6.858; GND@472 3.302,6.858; GND@473 3.556,6.858; GND@474 3.81,6.858; GND@475 4.064,6.858; GND@476 4.318,6.858; GND@477 4.572,6.858; GND@478 4.826,6.858; GND@479 5.08,6.858; GND@480 5.334,6.858; GND@481 5.588,6.858; GND@482 5.842,6.858; GND@483 6.096,6.858; GND@484 6.35,6.858; GND@485 6.604,6.858; GND@486 6.858,6.858; GND@487 7.112,6.858; GND@488 7.366,6.858; GND@489 10.922,6.858; GND@490 11.176,6.858; GND@491 11.43,6.858; GND@492 11.684,6.858; GND@493 11.938,6.858; GND@494 0,6.604; GND@495 0.254,6.604; GND@496 0.508,6.604; GND@497 0.762,6.604; GND@498 1.016,6.604; GND@499 1.27,6.604; GND@500 1.524,6.604; GND@501 1.778,6.604; GND@502 2.032,6.604; GND@503 2.794,6.604; GND@504 3.048,6.604; GND@505 3.302,6.604; GND@506 3.556,6.604; GND@507 3.81,6.604; GND@508 4.064,6.604; GND@509 4.318,6.604; GND@510 4.572,6.604; GND@511 4.826,6.604; GND@512 5.08,6.604; GND@513 5.334,6.604; GND@514 5.588,6.604; GND@515 5.842,6.604; GND@516 6.096,6.604; GND@517 6.604,6.604; GND@518 10.922,6.604; GND@519 11.176,6.604; GND@520 11.43,6.604; GND@521 11.684,6.604; GND@522 11.938,6.604; GND@523 0,6.35; GND@524 0.254,6.35; GND@525 0.508,6.35; GND@526 0.762,6.35; GND@527 1.016,6.35; GND@528 1.27,6.35; GND@529 1.524,6.35; GND@530 1.778,6.35; GND@531 2.032,6.35; GND@532 3.048,6.35; GND@533 4.572,6.35; GND@534 4.826,6.35; GND@535 5.334,6.35; GND@536 7.112,6.35; GND@537 7.62,6.35; GND@538 10.922,6.35; GND@539 11.176,6.35; GND@540 11.43,6.35; GND@541 11.684,6.35; GND@542 11.938,6.35; GND@543 0,6.096; GND@544 0.254,6.096; GND@545 0.508,6.096; GND@546 0.762,6.096; GND@547 1.016,6.096; GND@548 1.27,6.096; GND@549 1.524,6.096; GND@550 1.778,6.096; GND@551 2.032,6.096; GND@552 2.794,6.096; GND@553 5.08,6.096; GND@554 7.874,6.096; GND@555 8.382,6.096; GND@556 10.922,6.096; GND@557 11.176,6.096; GND@558 11.43,6.096; GND@559 11.684,6.096; GND@560 11.938,6.096; GND@561 0,5.842; GND@562 0.254,5.842; GND@563 0.508,5.842; GND@564 0.762,5.842; GND@565 1.016,5.842; GND@566 1.27,5.842; GND@567 1.524,5.842; GND@568 1.778,5.842; GND@569 2.032,5.842; GND@570 2.54,5.842; GND@571 3.556,5.842; GND@572 5.588,5.842; GND@573 6.604,5.842; GND@574 7.112,5.842; GND@575 7.874,5.842; GND@576 8.636,5.842; GND@577 10.922,5.842; GND@578 11.176,5.842; GND@579 11.43,5.842; GND@580 11.684,5.842; GND@581 11.938,5.842; GND@582 0,5.588; GND@583 0.254,5.588; GND@584 0.508,5.588; GND@585 0.762,5.588; GND@586 1.016,5.588; GND@587 1.27,5.588; GND@588 1.524,5.588; GND@589 1.778,5.588; GND@590 2.032,5.588; GND@591 2.54,5.588; GND@592 3.302,5.588; GND@593 4.064,5.588; GND@594 4.572,5.588; GND@595 5.08,5.588; GND@596 5.334,5.588; GND@597 8.382,5.588; GND@598 10.922,5.588; GND@599 11.176,5.588; GND@600 11.43,5.588; GND@601 11.684,5.588; GND@602 11.938,5.588; GND@603 0,5.334; GND@604 0.254,5.334; GND@605 0.508,5.334; GND@606 0.762,5.334; GND@607 1.016,5.334; GND@608 1.27,5.334; GND@609 1.524,5.334; GND@610 1.778,5.334; GND@611 2.032,5.334; GND@612 2.54,5.334; GND@613 2.794,5.334; GND@614 3.302,5.334; GND@615 3.556,5.334; GND@616 4.572,5.334; GND@617 4.826,5.334; GND@618 5.08,5.334; GND@619 5.588,5.334; GND@620 6.096,5.334; GND@621 6.604,5.334; GND@622 7.62,5.334; GND@623 7.874,5.334; GND@624 8.382,5.334; GND@625 10.16,5.334; GND@626 10.668,5.334; GND@627 10.922,5.334; GND@628 11.176,5.334; GND@629 11.43,5.334; GND@630 11.684,5.334; GND@631 11.938,5.334; GND@632 0,5.08; GND@633 0.254,5.08; GND@634 0.508,5.08; GND@635 0.762,5.08; GND@636 1.016,5.08; GND@637 1.27,5.08; GND@638 1.524,5.08; GND@639 1.778,5.08; GND@640 2.032,5.08; GND@641 2.286,5.08; GND@642 2.54,5.08; GND@643 2.794,5.08; GND@644 3.302,5.08; GND@645 3.556,5.08; GND@646 3.81,5.08; GND@647 4.064,5.08; GND@648 4.318,5.08; GND@649 4.826,5.08; GND@650 5.08,5.08; GND@651 6.35,5.08; GND@652 6.604,5.08; GND@653 6.858,5.08; GND@654 7.112,5.08; GND@655 7.366,5.08; GND@656 7.62,5.08; GND@657 10.922,5.08; GND@658 11.176,5.08; GND@659 11.43,5.08; GND@660 11.684,5.08; GND@661 11.938,5.08; GND@662 0,4.826; GND@663 0.254,4.826; GND@664 0.508,4.826; GND@665 0.762,4.826; GND@666 1.016,4.826; GND@667 1.27,4.826; GND@668 1.524,4.826; GND@669 1.778,4.826; GND@670 2.032,4.826; GND@671 2.286,4.826; GND@672 2.794,4.826; GND@673 3.302,4.826; GND@674 3.556,4.826; GND@675 3.81,4.826; GND@676 4.064,4.826; GND@677 4.318,4.826; GND@678 4.826,4.826; GND@679 5.08,4.826; GND@680 5.588,4.826; GND@681 6.096,4.826; GND@682 6.604,4.826; GND@683 6.858,4.826; GND@684 7.112,4.826; GND@685 7.366,4.826; GND@686 7.62,4.826; GND@687 8.128,4.826; GND@688 10.668,4.826; GND@689 10.922,4.826; GND@690 11.176,4.826; GND@691 11.43,4.826; GND@692 11.684,4.826; GND@693 11.938,4.826; GND@694 0,4.572; GND@695 0.254,4.572; GND@696 0.508,4.572; GND@697 0.762,4.572; GND@698 1.016,4.572; GND@699 1.27,4.572; GND@700 1.524,4.572; GND@701 1.778,4.572; GND@702 2.032,4.572; GND@703 2.286,4.572; GND@704 3.048,4.572; GND@705 3.302,4.572; GND@706 3.556,4.572; GND@707 3.81,4.572; GND@708 4.572,4.572; GND@709 4.826,4.572; GND@710 5.08,4.572; GND@711 6.35,4.572; GND@712 9.652,4.572; GND@713 10.16,4.572; GND@714 10.668,4.572; GND@715 10.922,4.572; GND@716 11.176,4.572; GND@717 11.43,4.572; GND@718 11.684,4.572; GND@719 11.938,4.572; GND@720 0,4.318; GND@721 0.254,4.318; GND@722 0.508,4.318; GND@723 0.762,4.318; GND@724 1.016,4.318; GND@725 1.27,4.318; GND@726 1.524,4.318; GND@727 1.778,4.318; GND@728 2.032,4.318; GND@729 2.286,4.318; GND@730 2.54,4.318; GND@731 2.794,4.318; GND@732 4.064,4.318; GND@733 4.572,4.318; GND@734 4.826,4.318; GND@735 5.08,4.318; GND@736 5.842,4.318; GND@737 6.35,4.318; GND@738 6.604,4.318; GND@739 6.858,4.318; GND@740 7.112,4.318; GND@741 7.366,4.318; GND@742 7.874,4.318; GND@743 9.906,4.318; GND@744 10.414,4.318; GND@745 10.668,4.318; GND@746 10.922,4.318; GND@747 11.176,4.318; GND@748 11.43,4.318; GND@749 11.684,4.318; GND@750 11.938,4.318; GND@751 0,4.064; GND@752 0.254,4.064; GND@753 0.508,4.064; GND@754 0.762,4.064; GND@755 1.016,4.064; GND@756 1.27,4.064; GND@757 1.524,4.064; GND@758 1.778,4.064; GND@759 2.032,4.064; GND@760 2.286,4.064; GND@761 2.794,4.064; GND@762 3.048,4.064; GND@763 3.302,4.064; GND@764 3.556,4.064; GND@765 3.81,4.064; GND@766 4.318,4.064; GND@767 4.572,4.064; GND@768 4.826,4.064; GND@769 5.842,4.064; GND@770 6.858,4.064; GND@771 7.112,4.064; GND@772 10.414,4.064; GND@773 10.668,4.064; GND@774 10.922,4.064; GND@775 11.176,4.064; GND@776 11.43,4.064; GND@777 11.684,4.064; GND@778 11.938,4.064; GND@779 0,3.81; GND@780 0.254,3.81; GND@781 0.508,3.81; GND@782 0.762,3.81; GND@783 1.016,3.81; GND@784 1.27,3.81; GND@785 1.524,3.81; GND@786 1.778,3.81; GND@787 2.032,3.81; GND@788 2.286,3.81; GND@789 2.794,3.81; GND@790 3.302,3.81; GND@791 3.556,3.81; GND@792 4.064,3.81; GND@793 4.318,3.81; GND@794 10.16,3.81; GND@795 10.414,3.81; GND@796 10.668,3.81; GND@797 10.922,3.81; GND@798 11.176,3.81; GND@799 11.43,3.81; GND@800 11.684,3.81; GND@801 11.938,3.81; GND@802 0,3.556; GND@803 0.254,3.556; GND@804 0.508,3.556; GND@805 0.762,3.556; GND@806 1.016,3.556; GND@807 1.27,3.556; GND@808 1.524,3.556; GND@809 1.778,3.556; GND@810 2.032,3.556; GND@811 2.286,3.556; GND@812 3.048,3.556; GND@813 4.064,3.556; GND@814 4.318,3.556; GND@815 4.572,3.556; GND@816 4.826,3.556; GND@817 5.334,3.556; GND@818 5.842,3.556; GND@819 6.096,3.556; GND@820 6.35,3.556; GND@821 7.112,3.556; GND@822 7.62,3.556; GND@823 9.906,3.556; GND@824 10.16,3.556; GND@825 10.414,3.556; GND@826 10.668,3.556; GND@827 10.922,3.556; GND@828 11.176,3.556; GND@829 11.43,3.556; GND@830 11.684,3.556; GND@831 11.938,3.556; GND@832 0,3.302; GND@833 0.254,3.302; GND@834 0.508,3.302; GND@835 0.762,3.302; GND@836 1.016,3.302; GND@837 1.27,3.302; GND@838 1.524,3.302; GND@839 1.778,3.302; GND@840 2.032,3.302; GND@841 2.286,3.302; GND@842 3.302,3.302; GND@843 4.826,3.302; GND@844 7.62,3.302; GND@845 9.906,3.302; GND@846 10.16,3.302; GND@847 10.414,3.302; GND@848 10.668,3.302; GND@849 10.922,3.302; GND@850 11.176,3.302; GND@851 11.43,3.302; GND@852 11.684,3.302; GND@853 11.938,3.302; GND@854 0,3.048; GND@855 0.254,3.048; GND@856 0.508,3.048; GND@857 0.762,3.048; GND@858 1.016,3.048; GND@859 1.27,3.048; GND@860 1.524,3.048; GND@861 1.778,3.048; GND@862 2.032,3.048; GND@863 2.286,3.048; GND@864 2.54,3.048; GND@865 3.556,3.048; GND@866 4.064,3.048; GND@867 4.318,3.048; GND@868 4.826,3.048; GND@869 5.334,3.048; GND@870 5.842,3.048; GND@871 7.112,3.048; GND@872 9.906,3.048; GND@873 10.16,3.048; GND@874 10.414,3.048; GND@875 10.668,3.048; GND@876 10.922,3.048; GND@877 11.176,3.048; GND@878 11.43,3.048; GND@879 11.684,3.048; GND@880 11.938,3.048; GND@881 0,2.794; GND@882 0.254,2.794; GND@883 0.508,2.794; GND@884 0.762,2.794; GND@885 1.016,2.794; GND@886 1.27,2.794; GND@887 1.524,2.794; GND@888 1.778,2.794; GND@889 2.032,2.794; GND@890 2.286,2.794; GND@891 2.54,2.794; GND@892 3.556,2.794; GND@893 4.064,2.794; GND@894 4.318,2.794; GND@895 4.572,2.794; GND@896 4.826,2.794; GND@897 5.588,2.794; GND@898 5.842,2.794; GND@899 6.096,2.794; GND@900 7.366,2.794; GND@901 9.652,2.794; GND@902 9.906,2.794; GND@903 10.16,2.794; GND@904 10.414,2.794; GND@905 10.668,2.794; GND@906 10.922,2.794; GND@907 11.176,2.794; GND@908 11.43,2.794; GND@909 11.684,2.794; GND@910 11.938,2.794; GND@911 0,2.54; GND@912 0.254,2.54; GND@913 0.508,2.54; GND@914 0.762,2.54; GND@915 1.016,2.54; GND@916 1.27,2.54; GND@917 1.524,2.54; GND@918 1.778,2.54; GND@919 2.032,2.54; GND@920 2.286,2.54; GND@921 2.54,2.54; GND@922 2.794,2.54; GND@923 3.556,2.54; GND@924 4.318,2.54; GND@925 4.572,2.54; GND@926 6.604,2.54; GND@927 6.858,2.54; GND@928 9.652,2.54; GND@929 9.906,2.54; GND@930 10.16,2.54; GND@931 10.414,2.54; GND@932 10.668,2.54; GND@933 10.922,2.54; GND@934 11.176,2.54; GND@935 11.43,2.54; GND@936 11.684,2.54; GND@937 11.938,2.54; GND@938 0,2.286; GND@939 0.254,2.286; GND@940 0.508,2.286; GND@941 0.762,2.286; GND@942 1.016,2.286; GND@943 1.27,2.286; GND@944 1.524,2.286; GND@945 1.778,2.286; GND@946 2.032,2.286; GND@947 2.286,2.286; GND@948 2.54,2.286; GND@949 2.794,2.286; GND@950 3.048,2.286; GND@951 4.064,2.286; GND@952 4.318,2.286; GND@953 4.826,2.286; GND@954 6.35,2.286; GND@955 9.144,2.286; GND@956 9.906,2.286; GND@957 10.16,2.286; GND@958 10.414,2.286; GND@959 10.668,2.286; GND@960 10.922,2.286; GND@961 11.176,2.286; GND@962 11.43,2.286; GND@963 11.684,2.286; GND@964 11.938,2.286; GND@965 0,2.032; GND@966 0.254,2.032; GND@967 0.508,2.032; GND@968 0.762,2.032; GND@969 1.016,2.032; GND@970 1.27,2.032; GND@971 1.524,2.032; GND@972 1.778,2.032; GND@973 2.032,2.032; GND@974 2.286,2.032; GND@975 2.54,2.032; GND@976 2.794,2.032; GND@977 3.048,2.032; GND@978 3.302,2.032; GND@979 4.318,2.032; GND@980 4.572,2.032; GND@981 4.826,2.032; GND@982 5.08,2.032; GND@983 5.334,2.032; GND@984 5.842,2.032; GND@985 6.35,2.032; GND@986 6.604,2.032; GND@987 7.112,2.032; GND@988 9.906,2.032; GND@989 10.16,2.032; GND@990 10.414,2.032; GND@991 10.668,2.032; GND@992 10.922,2.032; GND@993 11.176,2.032; GND@994 11.43,2.032; GND@995 11.684,2.032; GND@996 11.938,2.032; GND@997 0,1.778; GND@998 0.254,1.778; GND@999 0.508,1.778; GND@1000 0.762,1.778; GND@1001 1.016,1.778; GND@1002 1.27,1.778; GND@1003 1.524,1.778; GND@1004 1.778,1.778; GND@1005 2.032,1.778; GND@1006 2.286,1.778; GND@1007 2.54,1.778; GND@1008 2.794,1.778; GND@1009 3.048,1.778; GND@1010 3.302,1.778; GND@1011 3.556,1.778; GND@1012 5.08,1.778; GND@1013 5.588,1.778; GND@1014 5.842,1.778; GND@1015 8.636,1.778; GND@1016 10.414,1.778; GND@1017 10.668,1.778; GND@1018 10.922,1.778; GND@1019 11.176,1.778; GND@1020 11.43,1.778; GND@1021 11.684,1.778; GND@1022 11.938,1.778; GND@1023 0,1.524; GND@1024 0.254,1.524; GND@1025 0.508,1.524; GND@1026 0.762,1.524; GND@1027 1.016,1.524; GND@1028 1.27,1.524; GND@1029 1.524,1.524; GND@1030 1.778,1.524; GND@1031 2.032,1.524; GND@1032 2.286,1.524; GND@1033 2.54,1.524; GND@1034 2.794,1.524; GND@1035 3.048,1.524; GND@1036 3.302,1.524; GND@1037 3.556,1.524; GND@1038 3.81,1.524; GND@1039 5.08,1.524; GND@1040 5.842,1.524; GND@1041 9.398,1.524; GND@1042 9.652,1.524; GND@1043 9.906,1.524; GND@1044 10.16,1.524; GND@1045 10.668,1.524; GND@1046 10.922,1.524; GND@1047 11.176,1.524; GND@1048 11.43,1.524; GND@1049 11.684,1.524; GND@1050 11.938,1.524; GND@1051 0,1.27; GND@1052 0.254,1.27; GND@1053 0.508,1.27; GND@1054 0.762,1.27; GND@1055 1.016,1.27; GND@1056 1.27,1.27; GND@1057 1.524,1.27; GND@1058 1.778,1.27; GND@1059 2.032,1.27; GND@1060 2.286,1.27; GND@1061 2.54,1.27; GND@1062 2.794,1.27; GND@1063 3.048,1.27; GND@1064 3.302,1.27; GND@1065 4.064,1.27; GND@1066 8.382,1.27; GND@1067 8.89,1.27; GND@1068 9.144,1.27; GND@1069 9.398,1.27; GND@1070 9.906,1.27; GND@1071 11.176,1.27; GND@1072 11.43,1.27; GND@1073 11.684,1.27; GND@1074 11.938,1.27; GND@1075 0,1.016; GND@1076 0.254,1.016; GND@1077 0.508,1.016; GND@1078 0.762,1.016; GND@1079 1.016,1.016; GND@1080 1.27,1.016; GND@1081 1.524,1.016; GND@1082 1.778,1.016; GND@1083 2.032,1.016; GND@1084 2.286,1.016; GND@1085 2.54,1.016; GND@1086 2.794,1.016; GND@1087 3.048,1.016; GND@1088 3.556,1.016; GND@1089 3.81,1.016; GND@1090 4.064,1.016; GND@1091 4.318,1.016; GND@1092 8.636,1.016; GND@1093 8.89,1.016; GND@1094 9.398,1.016; GND@1095 9.652,1.016; GND@1096 10.16,1.016; GND@1097 10.668,1.016; GND@1098 11.176,1.016; GND@1099 11.43,1.016; GND@1100 11.684,1.016; GND@1101 11.938,1.016; GND@1102 0,0.762; GND@1103 0.254,0.762; GND@1104 0.508,0.762; GND@1105 0.762,0.762; GND@1106 1.016,0.762; GND@1107 1.27,0.762; GND@1108 1.524,0.762; GND@1109 1.778,0.762; GND@1110 2.032,0.762; GND@1111 2.286,0.762; GND@1112 2.54,0.762; GND@1113 2.794,0.762; GND@1114 3.302,0.762; GND@1115 3.556,0.762; GND@1116 3.81,0.762; GND@1117 4.064,0.762; GND@1118 4.318,0.762; GND@1119 4.572,0.762; GND@1120 8.128,0.762; GND@1121 8.382,0.762; GND@1122 8.636,0.762; GND@1123 8.89,0.762; GND@1124 9.144,0.762; GND@1125 9.398,0.762; GND@1126 9.652,0.762; GND@1127 9.906,0.762; GND@1128 10.16,0.762; GND@1129 10.414,0.762; GND@1130 10.668,0.762; GND@1131 11.43,0.762; GND@1132 11.684,0.762; GND@1133 11.938,0.762; GND@1134 0,0.508; GND@1135 0.254,0.508; GND@1136 0.508,0.508; GND@1137 0.762,0.508; GND@1138 1.016,0.508; GND@1139 1.27,0.508; GND@1140 1.524,0.508; GND@1141 1.778,0.508; GND@1142 2.032,0.508; GND@1143 2.286,0.508; GND@1144 2.54,0.508; GND@1145 3.302,0.508; GND@1146 3.556,0.508; GND@1147 3.81,0.508; GND@1148 4.064,0.508; GND@1149 4.572,0.508; GND@1150 4.826,0.508; GND@1151 5.08,0.508; GND@1152 5.334,0.508; GND@1153 5.842,0.508; GND@1154 7.874,0.508; GND@1155 8.128,0.508; GND@1156 8.382,0.508; GND@1157 8.636,0.508; GND@1158 8.89,0.508; GND@1159 9.144,0.508; GND@1160 9.398,0.508; GND@1161 9.652,0.508; GND@1162 9.906,0.508; GND@1163 10.16,0.508; GND@1164 10.668,0.508; GND@1165 10.922,0.508; GND@1166 11.43,0.508; GND@1167 11.684,0.508; GND@1168 11.938,0.508; GND@1169 0,0.254; GND@1170 0.254,0.254; GND@1171 0.508,0.254; GND@1172 0.762,0.254; GND@1173 1.016,0.254; GND@1174 1.27,0.254; GND@1175 1.524,0.254; GND@1176 1.778,0.254; GND@1177 2.032,0.254; GND@1178 2.286,0.254; GND@1179 2.794,0.254; GND@1180 3.048,0.254; GND@1181 3.81,0.254; GND@1182 4.064,0.254; GND@1183 4.318,0.254; GND@1184 4.826,0.254; GND@1185 5.08,0.254; GND@1186 7.366,0.254; GND@1187 7.62,0.254; GND@1188 7.874,0.254; GND@1189 8.128,0.254; GND@1190 8.382,0.254; GND@1191 8.636,0.254; GND@1192 8.89,0.254; GND@1193 9.144,0.254; GND@1194 9.398,0.254; GND@1195 9.652,0.254; GND@1196 9.906,0.254; GND@1197 10.414,0.254; GND@1198 10.668,0.254; GND@1199 10.922,0.254; GND@1200 11.176,0.254; GND@1201 11.684,0.254; GND@1202 11.938,0.254; GND@1203 0,0; GND@1204 0.254,0; GND@1205 0.508,0; GND@1206 0.762,0; GND@1207 1.016,0; GND@1208 1.27,0; GND@1209 1.524,0; GND@1210 1.778,0; GND@1211 2.032,0; GND@1212 2.54,0; GND@1213 2.794,0; GND@1214 3.048,0; GND@1215 3.302,0; GND@1216 3.81,0; GND@1217 4.318,0; GND@1218 4.572,0; GND@1219 4.826,0; GND@1220 5.08,0; GND@1221 5.334,0; GND@1222 5.588,0; GND@1223 6.096,0; GND@1224 6.35,0; GND@1225 6.604,0; GND@1226 7.112,0; GND@1227 7.366,0; GND@1228 7.62,0; GND@1229 7.874,0; GND@1230 8.128,0; GND@1231 8.382,0; GND@1232 8.636,0; GND@1233 8.89,0; GND@1234 9.144,0; GND@1235 9.398,0; GND@1236 9.652,0; GND@1237 10.16,0; GND@1238 10.414,0; GND@1239 10.668,0; GND@1240 10.922,0; GND@1241 11.176,0; GND@1242 11.43,0; GND@1243 11.684,0; GND@1244 11.938,0